# EAGLE library part TEXAS_INSTRUMENTS-CPU_CONVERTER-TPS62363YZHR (library Module_Regulators)
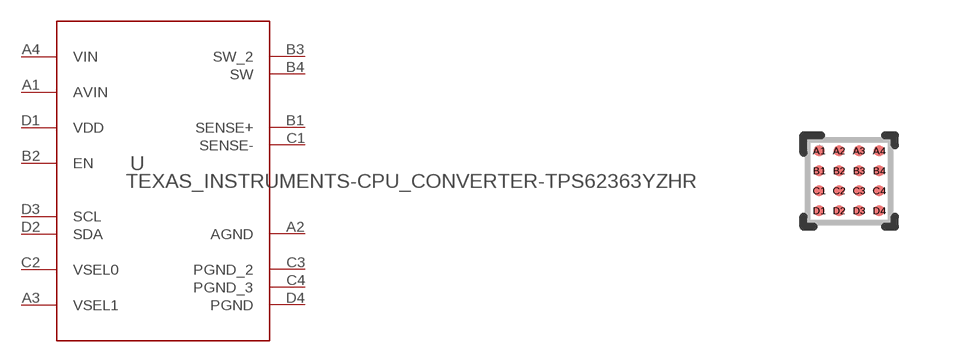
[diagram p1: symbol with the pads of TEXAS_INSTRUMENTS-CPU_CONVERTER-TPS62363YZHR; footprint TEXAS_INSTRUMENTS-CPU_CONVERTER-TPS62363YZHR]

Designator prefix U

## TEXAS_INSTRUMENTS-CPU_CONVERTER-TPS62363YZHR (ALTERNATEPARTNUMBER: TPS62363YZHT; APPLICATION_BUILDNUMBER: *; COMPTYPE: IC; MANUFACTURER: Texas Instruments; MOUNTTYPE: SMT; PACKAGEREFERENCE: YZH0016AFAF; PARTNUMBER: TPS62363YZHR; PIN_COUNT: 16; REFDES: RefDes; ROHS: Y; TYPE: TYPE; VALUE: Value)  [TEXAS_INSTRUMENTS-CPU_CONVERTER-TPS62363YZHR]
A1  AVIN  pwr
A2  AGND  pwr
A3  VSEL1  in
A4  VIN  pwr
B1  SENSE+  in
B2  EN  in
B3  SW_2  pwr
B4  SW  pwr
C1  SENSE-  in
C2  VSEL0  in
C3  PGND_2  pwr
C4  PGND_3  pwr
D1  VDD  pwr
D2  SDA
D3  SCL  in
D4  PGND  pwr

## Footprint TEXAS_INSTRUMENTS-CPU_CONVERTER-TPS62363YZHR (pad centres in mm)
smd 0.275 x 0.275: A1 -0.75,0.75; A2 -0.25,0.75; A3 0.25,0.75; A4 0.75,0.75; B1 -0.75,0.25; B2 -0.25,0.25; B3 0.25,0.25; B4 0.75,0.25; C1 -0.75,-0.25; C2 -0.25,-0.25; C3 0.25,-0.25; C4 0.75,-0.25; D1 -0.75,-0.75; D2 -0.25,-0.75; D3 0.25,-0.75; D4 0.75,-0.75